# Altium footprint library РЭС.PcbLib: 1 footprints
Each footprint in its own frame and in the unit in brackets; x right, y up, seen from the top. Pads: shape width x height; smd on the part's side, far side on the other; paste and mask are expansions set on the pad; w line width, h text height; cw(c..) or ccw(c..) is an arc to the next point about the centre after c.
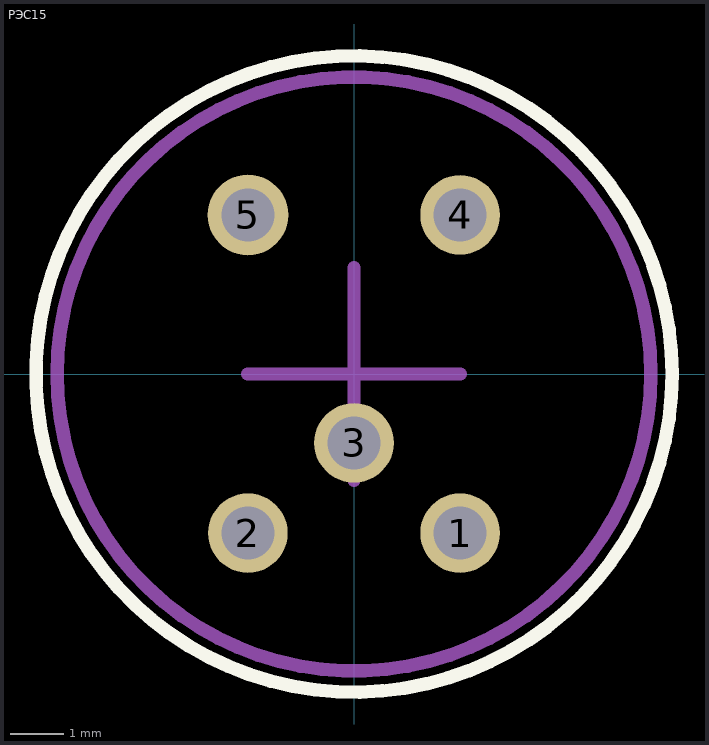
[diagram p0: the footprint, top view; thin cyan lines are the x and y axes]

## РЭС15 [mm]
pads (5):
  round 1.5 hole 1: 1(2,-3) 2(-2,-3) 3(0,-1.3) 4(2,3)
  round 1.524 hole 1: 5(-2,3)
Top Overlay:
  circle w0.254: c0,0 r6
Assembly:
  circle w0.254: c0,0 r5.6
Mechanical 15:
  circle w0.254: c0,0 r5.6
  lines w0.254: -2,0 2,0 ; 0,-2 0,2
3D body "РЭС15.step": height 18.5, standoff -5, extent -5.6,-5.597 5.6,5.597